# Altium schematic symbol library KRE.SchLib: 1 symbol
Pins are listed as number, name and electrical type; pins without a type are passive.

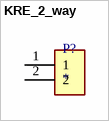
[diagram p0: symbol KRE_2_way]

## KRE_2_way
designator P?
TERM BLOCK 5.08MM 2POS SIDE ENTY; MP: 282837-2; MF: {'manufacturer': u'TE Connectivity'}; Value: *; Package: None; Availability: Unavailable; Price: None
footprint TE_282837-2
pins: 1, 2